# Altium footprint library Switchcraft_113B_RND.PcbLib: 1 footprints
Each footprint in its own frame and in the unit in brackets; x right, y up, seen from the top. Pads: shape width x height; smd on the part's side, far side on the other; paste and mask are expansions set on the pad; w line width, h text height; cw(c..) or ccw(c..) is an arc to the next point about the centre after c.
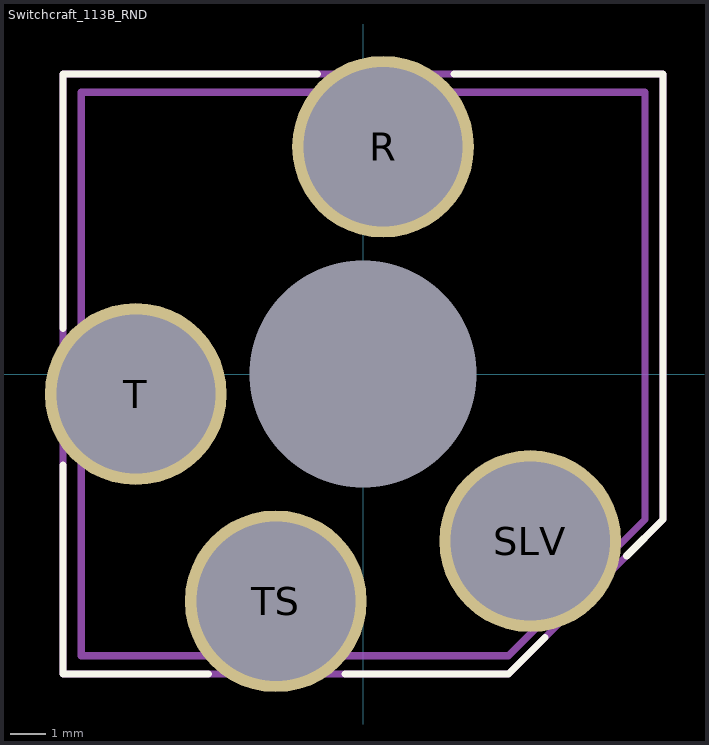
[diagram p0: the footprint, top view; thin cyan lines are the x and y axes]

## Switchcraft_113B_RND [mil]
pads (5):
  round 200 hole 175: R(22,250) SLV(183.85,-183.85) T(-250,-22) TS(-96,-250)
  round 60 hole 250 unplated: ""(0,0)
Top Overlay:
  lines w7.87: -330,-100 -330,-330 -170,-330 ; -330,50 -330,330 -50,330 ; -20,-330 160,-330 200,-290 ; 100,330 330,330 330,-160 290,-200
Mechanical 15:
  lines w7.87: -50,0 50,0 ; 0,-50 0,50 ; -330,-330 -330,330 330,330 330,-160 160,-330 -330,-330
Mechanical 17:
  lines w7.87: -310,-310 -310,310 310,310 310,-160 160,-310 -310,-310
  text ".Designator" at -250,-50 h60
Mechanical 19:
  lines w7.87: -310,-310 -310,310 310,310 310,-160 160,-310 -310,-310
  text ".Comment" at -250,-50 h60
3D body: height 1691.87, standoff -159, extent -307.49,-307.49 307.51,307.51